# Altium schematic symbol library 2-1761603-3.SchLib: 1 symbol
Pins are listed as number, name and electrical type; pins without a type are passive.

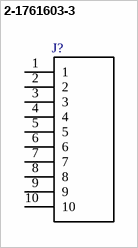
[diagram p0: symbol 2-1761603-3]

## 2-1761603-3
designator J?  (value not drawn)
Header, Pin, Idc, Amp-Latch, 10 Pos, Low Profile, Pcb, Vertical, Blue; Number_of_Positions: 10; MF: TE Connectivity; Product_Type: Connector; Centerline_Pitch: 2.54 mm[.1 in]; Price: None; Package: None; TE_purchase_URL: https://www.te.com/usa-en/product-2-1761603-3.html?te_bu=Cor&te_type=disp&te_campaign=seda_glo_cor-seda-global-disp-prtnr-fy19-seda-model-bom-cta_sma-317_1&elqCampaignId=32493; Availability: Unavailable; SnapEDA_Link: https://www.snapeda.com/parts/2-1761603-3/TE%20Connectivity%20AMP%20Connectors/view-part/491411/?ref=snap; EU_RoHS_Compliance: Compliant; MP: 2-1761603-3; Value: *
footprint *TE_2-1761603-3
pins: 1, 2, 3, 4, 5, 6, 7, 8, 9, 10